# Altium footprint library cy.PcbLib: 99 footprints (part 2 of 7)
Each footprint in its own frame and in the unit in brackets; x right, y up, seen from the top. Pads: shape width x height; smd on the part's side, far side on the other; paste and mask are expansions set on the pad; w line width, h text height; cw(c..) or ccw(c..) is an arc to the next point about the centre after c.
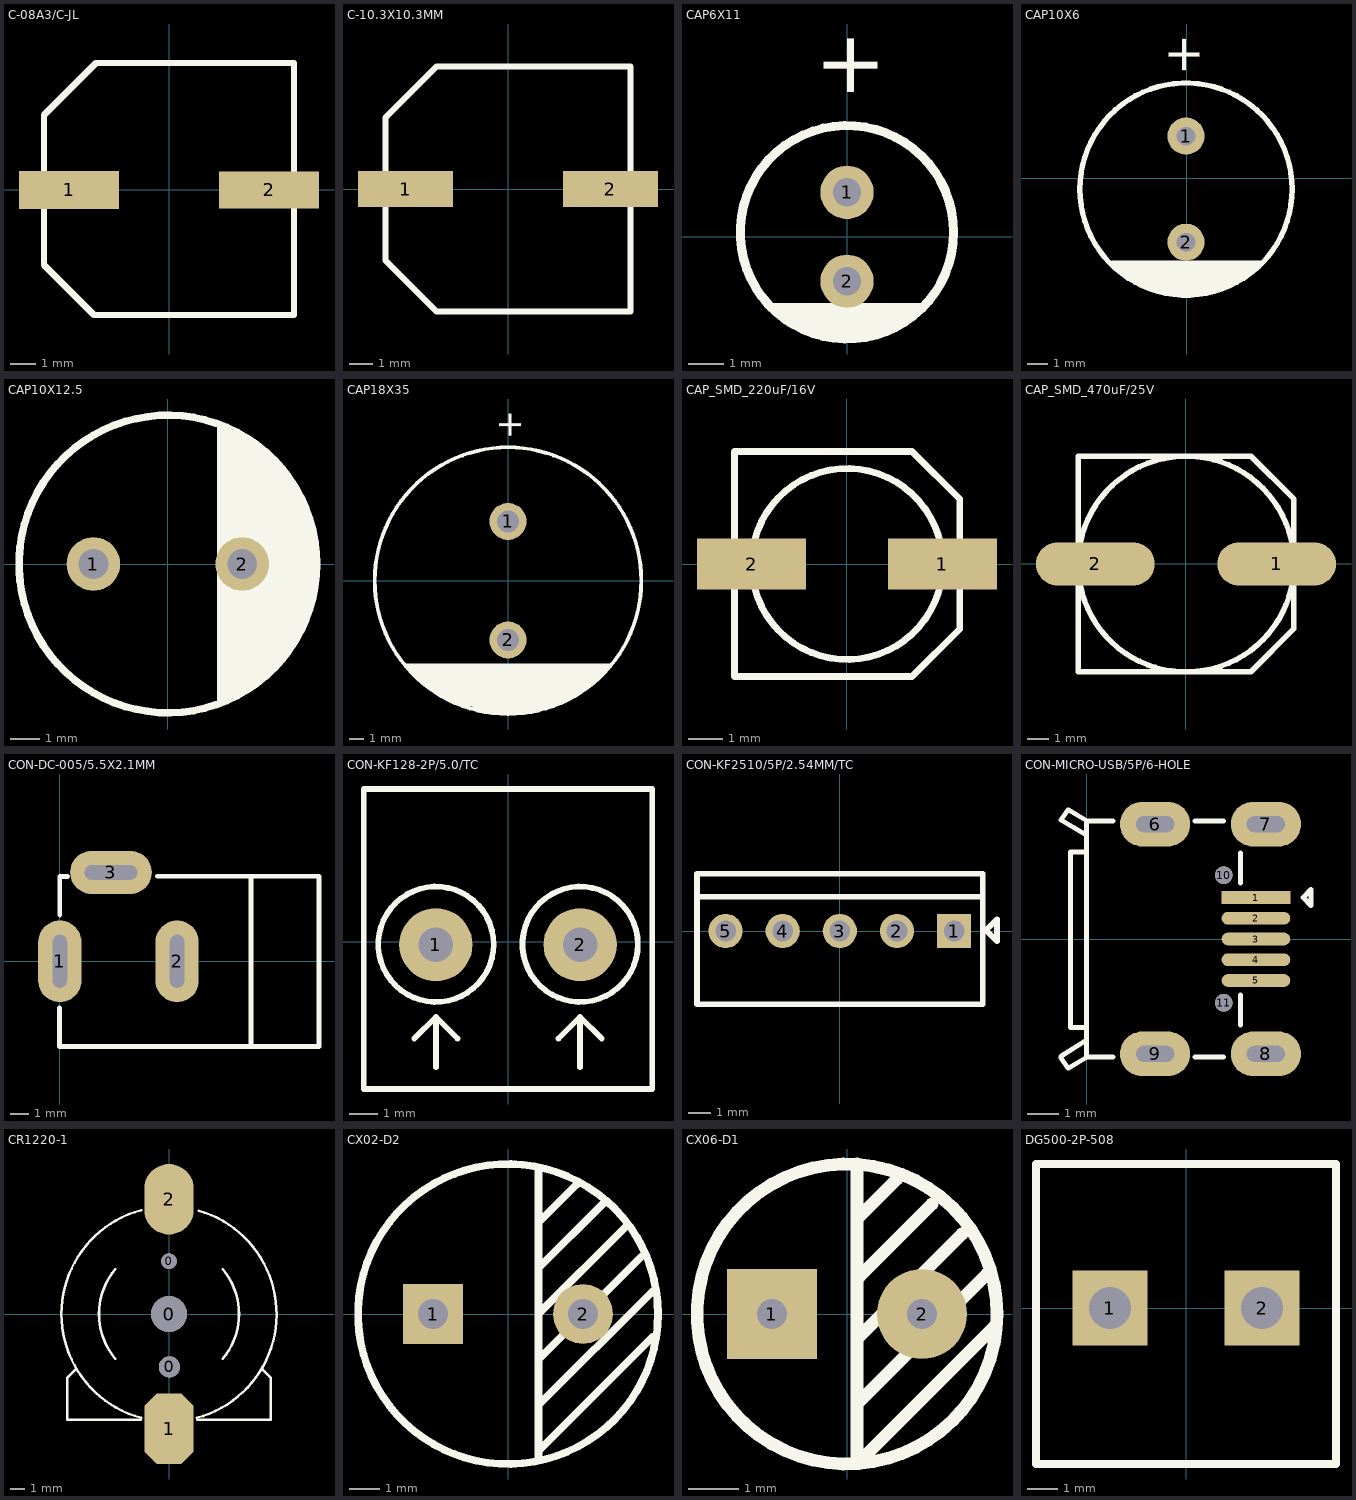
[diagram p1: the footprints below, top view; thin cyan lines are the x and y axes]

## C-08A3/C-JL [mm]
pads (2):
  rect 4x1.524 smd: 1(-4,0)
  rect 4x1.5 smd: 2(4,0)
Top Overlay:
  lines w0.254: -5,-3 -5,3 -2.92,5.08 5,5.08 5,-5 -3,-5 -5,-3

## C-10.3X10.3MM [mm]
pads (2):
  rect 4x1.524 smd: 1(-4.3,0) 2(4.3,0)
Top Overlay:
  lines w0.254: -5.15,-3 -5.15,3 -3,5.15 5.15,5.15 5.15,0 5.15,-5.15 -3,-5.15 -5.15,-3

## CAP6X11 [mm]
pads (2):
  round 1.5 hole 0.8: 1(0,1.25) 2(0,-1.25)
Top Overlay:
  circle w0.254: c0,0.127 r3
  lines w0.254: -2.134,-1.981 2.083,-1.981 ; -1.905,-2.159 1.905,-2.159 ; -1.626,-2.311 1.524,-2.311 ; -1.295,-2.515 1.321,-2.515 ; -0.762,-2.667 0.838,-2.667
  text "+" at 0.864,3.81 h1.75

## CAP10X6 [mil]
pads (2):
  round 70 hole 35: 1(-1,80) 2(-1,-120)
Top Overlay:
  circle w10: c-1,-20 r200
  region: 60,-215 60,-185 -55,-185 -55,-215
  region: 80,-205 80,-180 -90,-180 -90,-205
  region: 110,-190 110,-165 -115,-165 -115,-190
  region: 140,-170 140,-155 -140,-155 -140,-170
  lines w11.81: -130,-165 ccw(c-2.7,-25.35) 128.39,-161.45
  text "+" at 25,194 h68.9
3D body: height 708.66, standoff -669.29, extent -196,-216.85 197.7,176.85

## CAP10X12.5 [mm]
pads (2):
  round 1.8 hole 1: 1(-2.5,0) 2(2.5,0)
Top Overlay:
  circle w0.254: c0,0 r5
  region: 1.778,-4.572 1.778,4.572 2.032,4.572 3.048,4.064 4.064,3.048 4.826,1.524 4.826,1.016 5.08,0.762 5.08,-0.508 4.826,-1.016 4.826,-1.524 4.572,-1.778 4.572,-2.286 4.064,-2.794 3.81,-3.302 3.048,-4.064 2.54,-4.318
  lines w0.254: 1.778,-4.572 1.778,4.572

## CAP18X35 [mm]
pads (2):
  round 2.5 hole 1.5: 1(0,4) 2(0,-4)
Top Overlay:
  circle w0.254: c0,0 r9
  rectangle: -1.397,-8.89 1.651,-8.763
  rectangle: -2.413,-8.763 2.54,-8.382
  rectangle: -3.302,-8.509 3.302,-8.001
  rectangle: -3.556,-8.255 3.556,-8.001
  rectangle: -4.064,-8.128 3.937,-7.747
  rectangle: -4.318,-8.001 4.318,-7.62
  rectangle: -4.699,-7.747 4.699,-7.493
  rectangle: -4.953,-7.62 4.953,-7.239
  rectangle: -5.334,-7.366 5.334,-6.985
  rectangle: -5.461,-7.112 5.588,-6.731
  rectangle: -5.842,-6.985 5.842,-6.604
  rectangle: -6.096,-6.731 6.096,-6.35
  rectangle: -6.35,-6.477 6.35,-6.096
  rectangle: -6.604,-6.223 6.604,-5.715
  rectangle: -6.858,-5.969 6.731,-5.715
  lines w0.254: -6.858,-5.715 6.858,-5.715
  text "+" at 0.9,9.5 h1.75

## CAP_SMD_220uF/16V [mm]
pads (2):
  rect 3.2x1.5 smd: 1(2.797,0) 2(-2.797,0)
Top Overlay:
  circle w0.2: c0.003,0 r2.8
  lines w0.2: -3.299,-3.302 -3.299,3.302 1.908,3.302 3.305,1.905 3.305,-1.905 1.908,-3.302 -3.299,-3.302

## CAP_SMD_470uF/25V [mm]
pads (2):
  oval 5.5x2 smd: 1(4.2,0) 2(-4.2,0)
Top Overlay:
  circle w0.254: c0.004,-0.004 r5
  lines w0.254: -5,-5 -5,5 3,5 5,3 5,-3 3,-5 -5,-5

## CON-DC-005/5.5X2.1MM [mil]
pads (3):
  oval 90x170 hole 30 slot 110 at 90 deg: 1(0,0) 2(244.09,0)
  oval 170x90 hole 30 slot 110 at 0 deg: 3(106.3,185.04)
Top Overlay:
  lines w10: -0.89,-96.46 -0.89,-177.17 539.37,-177.17 539.37,177.17 202.76,177.17 ; -0.04,96.46 -0.04,176.78 15.75,176.78 ; 397.64,-171.73 397.64,176.27

## CON-KF128-2P/5.0/TC [mm]
pads (2):
  round 2.54 / inner rect 2.54x2.54 / far side rect 2.54x2.54 hole 1.2: 1(-2.5,-0.1)
  round 2.54 hole 1.2: 2(2.5,-0.1)
Top Overlay:
  circle w0.2: c-2.498,-0.083 r2
  circle w0.2: c2.502,-0.083 r2
  lines w0.2: -3.25,-3.35 -2.5,-2.6 ; -2.5,-4.35 -2.5,-2.6 ; -1.75,-3.35 -2.5,-2.6 ; 1.75,-3.35 2.5,-2.6 ; 2.5,-4.35 2.5,-2.6 ; 3.25,-3.35 2.5,-2.6 ; -5,-5.1 -5,5.3 5,5.3 5,-5.1 -5,-5.1

## CON-KF2510/5P/2.54MM/TC [mil]
pads (5):
  rect 60x60 hole 36: 1(200,0)
  round 60 hole 36: 2(100,0) 3(0,0) 4(-100,0) 5(-200,0)
Top Overlay:
  lines w10: -250,60 250,60 ; -250,-128 -250,100 250,100 250,-128 -250,-128 ; 255.89,0.91 256.38,0.91 275.08,-17.8 275.08,20.59 255.89,1.4 255.89,0.91

## CON-MICRO-USB/5P/6-HOLE [mm]
pads (11):
  rect 2.15x0.4 smd: 1(5.31,1.3)
  oval 2.15x0.4 smd: 2(5.31,0.65) 3(5.31,0) 4(5.31,-0.65) 5(5.31,-1.3)
  oval 2.2x1.4 hole 0.5 slot 1.2 at 0 deg: 6(2.15,3.6) 7(5.62,3.6) 8(5.62,-3.6) 9(2.15,-3.6)
  round 0.55 hole 0.55 unplated: 10(4.3,2) 11(4.3,-2)
Top Overlay:
  lines w0.152: -0.8,-3.725 -0.6,-4.025 ; -0.8,-3.675 -0.05,-3.197 ; -0.6,4.025 -0.8,3.725 -0.075,3.3 ; -0.575,-4.05 0.025,-3.7 0.825,-3.7 ; -0.575,4.05 0.025,3.7 0.825,3.7 ; 0,-3.7 0,3.7 ; 0,-2.775 -0.5,-2.775 -0.5,2.725 0,2.725 ; 3.4,-3.7 4.3,-3.7 ; 3.4,3.7 4.3,3.7 ; 4.825,-2.7 4.825,-1.75 ; 4.825,1.75 4.825,2.7 ; 6.785,1.3 7.035,1.55 7.035,1.05 6.785,1.3

## CR1220-1 [mm] "钮扣电池"
height 3
pads (5):
  round 2.54 hole 2.54: 0(-0.012,0)
  round 1.1 hole 1.1: 0(-0.012,3.75)
  round 1.5 hole 1.5: 0(0.012,-3.75)
  oct 3.5x5 smd: 1(-0.012,-8.128)
  oval 3.5x5 smd: 2(-0.012,8.128)
Top Overlay:
  lines w0.178: -6.612,-3.9 -7.212,-4.5 -7.212,-7.5 -2.012,-7.5 ; -3.827,-3.169 cw(c-0.012,0) -3.825,3.172 ; -1.976,-7.363 cw(c-0.012,0) -7.632,0 cw(c-0.012,0) -1.976,7.363 ; 1.951,-7.363 ccw(c-0.012,0) 2.081,7.327 ; 1.987,-7.5 7.187,-7.5 7.187,-4.5 6.612,-3.925 ; 3.797,-3.175 ccw(c-0.012,0) 3.8,3.172
3D body: height 3.94, standoff -1, extent -7.509,-9.25 7.487,9.25

## CX02-D2 [mm]
pads (2):
  rect 2x2 hole 1: 1(-2.5,0)
  round 2 hole 1: 2(2.5,0)
Top Overlay:
  circle w0.254: c0,0 r5
  lines w0.254: 1.016,-4.826 1.016,4.826 ; 1.016,-4.572 4.826,-0.762 ; 1.016,-3.048 4.826,0.762 ; 1.016,-1.524 4.445,1.905 ; 1.016,0 3.937,2.921 ; 1.016,1.524 3.175,3.683 ; 1.016,3.048 2.286,4.318

## CX06-D1 [mm]
pads (2):
  rect 1.8x1.8 hole 0.6: 1(-1.5,0)
  round 1.8 hole 0.6: 2(1.5,0)
Top Overlay:
  circle w0.254: c0,0 r3
  lines w0.254: 0.2,-2.9 0.2,3 ; 0.2,-1.8 2.8,0.8 ; 0.2,-0.5 2.3,1.6 ; 0.2,1.9 1,2.7 ; 0.25,0.75 1.7,2.2 ; 0.35,-2.85 2.95,-0.25

## DG500-2P-508 [mm]
pads (2):
  rect 2.5x2.5 hole 1.4: 1(-2.54,0) 2(2.54,0)
Top Overlay:
  lines w0.254: -5,-5.2 5,-5.2 5,4.8 -5,4.8 -5,-5.2